# Altium schematic symbol library TLP2168.SCHLIB: 1 symbol
Pins are listed as number, name and electrical type; pins without a type are passive.

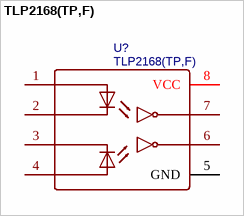
[diagram p0: symbol TLP2168(TP,F)]

## TLP2168(TP,F)
designator U?
BOM_Manufacturer: TOSHIBA; Contributor: LCSC; BOM_Supplier: LCSC; BOM_Supplier Part: C99480; BOM_Manufacturer Part: TLP2168(TP,F); BOM_JLCPCB Part Class: Extended Part; spicePre: U; spiceSymbolName: TLP2168(TP,F)
footprint SO-8_L4.9-W3.9-P1.27-LS5.9-BL
pins: 1 AN1, 2 CAT1, 3 CAT2, 4 AN2, 5 GND, 6 VO2, 7 VO1, 8 VCC